# EAGLE library part TPS2836 (library slom)
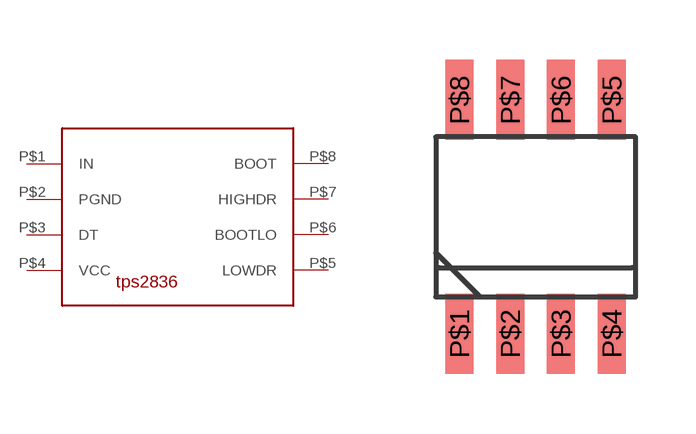
[diagram p4: symbol with the pads of D-SOIC-8; footprint D-SOIC-8]

Designator prefix -

## TPS2836  [D-SOIC-8]
P$1  IN
P$2  PGND
P$3  DT
P$4  VCC
P$5  LOWDR
P$6  BOOTLO
P$7  HIGHDR
P$8  BOOT

## Footprint D-SOIC-8 (pad centres in mm)
smd 0.7 x 2: P$1 -1.905,-2.921; P$2 -0.635,-2.921; P$3 0.635,-2.921; P$4 1.905,-2.921; P$5 1.905,2.921; P$6 0.635,2.921; P$7 -0.635,2.921; P$8 -1.905,2.921